# Altium footprint library MCU.PcbLib: 1 footprints
Each footprint in its own frame and in the unit in brackets; x right, y up, seen from the top. Pads: shape width x height; smd on the part's side, far side on the other; paste and mask are expansions set on the pad; w line width, h text height; cw(c..) or ccw(c..) is an arc to the next point about the centre after c.
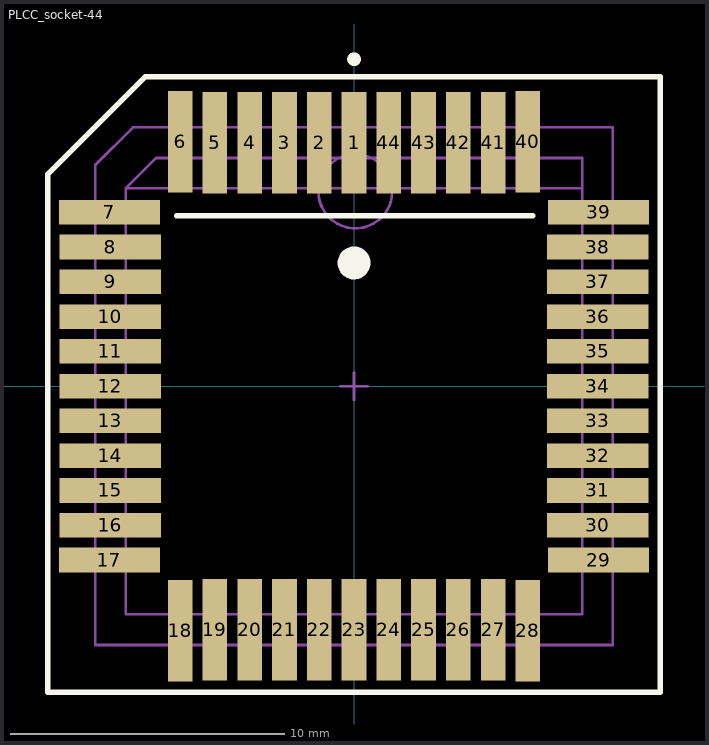
[diagram p0: the footprint, top view; thin cyan lines are the x and y axes]

## PLCC_socket-44 [mm] "PLCC, 44-Leads, Body 17.7x17.7mm (max), Pitch 1.270mm, IPC Medium Density"
height 4.572
pads (44):
  rect 0.9x3.7 smd: 1(0,8.89) 2(-1.27,8.89) 3(-2.54,8.89) 4(-3.81,8.89) 5(-5.08,8.89) 6(-6.35,8.92) 18(-6.35,-8.93) 19(-5.08,-8.9) 20(-3.81,-8.9) 21(-2.54,-8.9) 22(-1.27,-8.9) 23(0,-8.9) 24(1.27,-8.9) 25(2.54,-8.9) 26(3.81,-8.9) 27(5.08,-8.9) 28(6.35,-8.93) 40(6.35,8.92) 41(5.08,8.89) 42(3.81,8.89) 43(2.54,8.89) 44(1.27,8.89)
  rect 3.7x0.9 smd: 7(-8.93,6.35) 8(-8.9,5.08) 9(-8.9,3.81) 10(-8.9,2.54) 11(-8.9,1.27) 12(-8.9,0) 13(-8.9,-1.27) 14(-8.9,-2.54) 15(-8.9,-3.81) 16(-8.9,-5.08) 17(-8.93,-6.35) 29(8.93,-6.35) 30(8.9,-5.08) 31(8.9,-3.81) 32(8.9,-2.54) 33(8.9,-1.27) 34(8.9,0) 35(8.9,1.27) 36(8.9,2.54) 37(8.9,3.81) 38(8.9,5.08) 39(8.93,6.35)
Top Overlay:
  circle w0.25: c0.002,11.938 r0.125
  circle w0.6: c0,4.5 r0.3
  lines w0.2: -6.477,6.223 6.523,6.223 ; -11.176,-11.176 -11.176,7.747 -7.62,11.303 11.176,11.303 11.176,-11.176 -11.176,-11.176
Mechanical 13:
  lines w0.1: 8.331,7.231 -8.331,7.231 ; -8.331,7.231 -8.331,-8.331 8.331,-8.331 8.331,8.331 -7.231,8.331 -8.331,7.231
Mechanical 15:
  circle w0.1: c0.047,7.112 r1.35
  lines w0.1: -0.5,0 0.5,0 ; 0,-0.5 0,0.5 ; -9.45,-9.45 9.45,-9.45 9.45,9.45 -8.076,9.45 -9.45,8.076 -9.45,-9.45
  text ".Designator" at -0.889,-0.508 h0.5
3D body: height 4.57, standoff 0.51, extent -8.331,-8.331 8.331,8.331